# EAGLE library part RELAY_23 (library 3DRobotics_Master_Library)
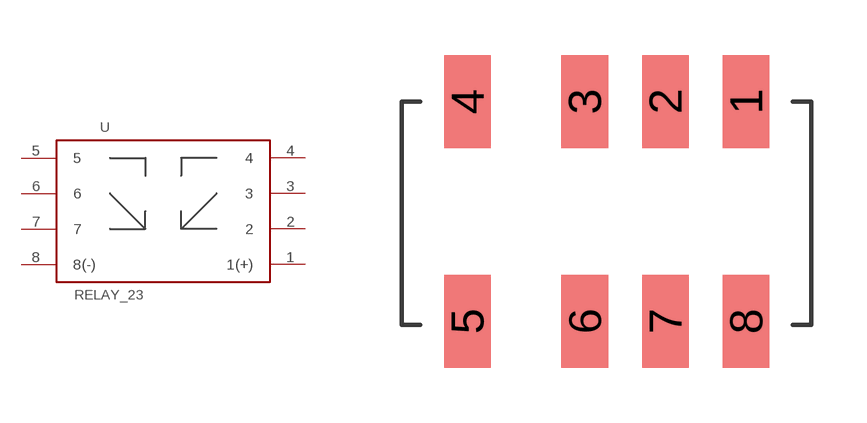
[diagram p1: symbol with the pads of RELAY_23; footprint RELAY_23]

Designator prefix -

## RELAY_23  [RELAY_23]
1  1(+)  pwr
2  2  pas
3  3  pas
4  4  pas
5  5  pas
6  6  pas
7  7  pas
8  8(-)  pwr

## Footprint RELAY_23 (pad centres in mm)
smd 1.27 x 2.54: 1 3.806,3.048; 2 1.606,3.048; 3 -0.594,3.048; 4 -3.794,3.048; 5 -3.794,-2.952; 6 -0.594,-2.952; 7 1.606,-2.952; 8 3.806,-2.952